# Altium footprint library 野火_H750X_H743X_底板_V1.0_PCB封装库_AD格式.PcbLib: 65 footprints (part 2 of 5)
Each footprint in its own frame and in the unit in brackets; x right, y up, seen from the top. Pads: shape width x height; smd on the part's side, far side on the other; paste and mask are expansions set on the pad; w line width, h text height; cw(c..) or ccw(c..) is an arc to the next point about the centre after c.
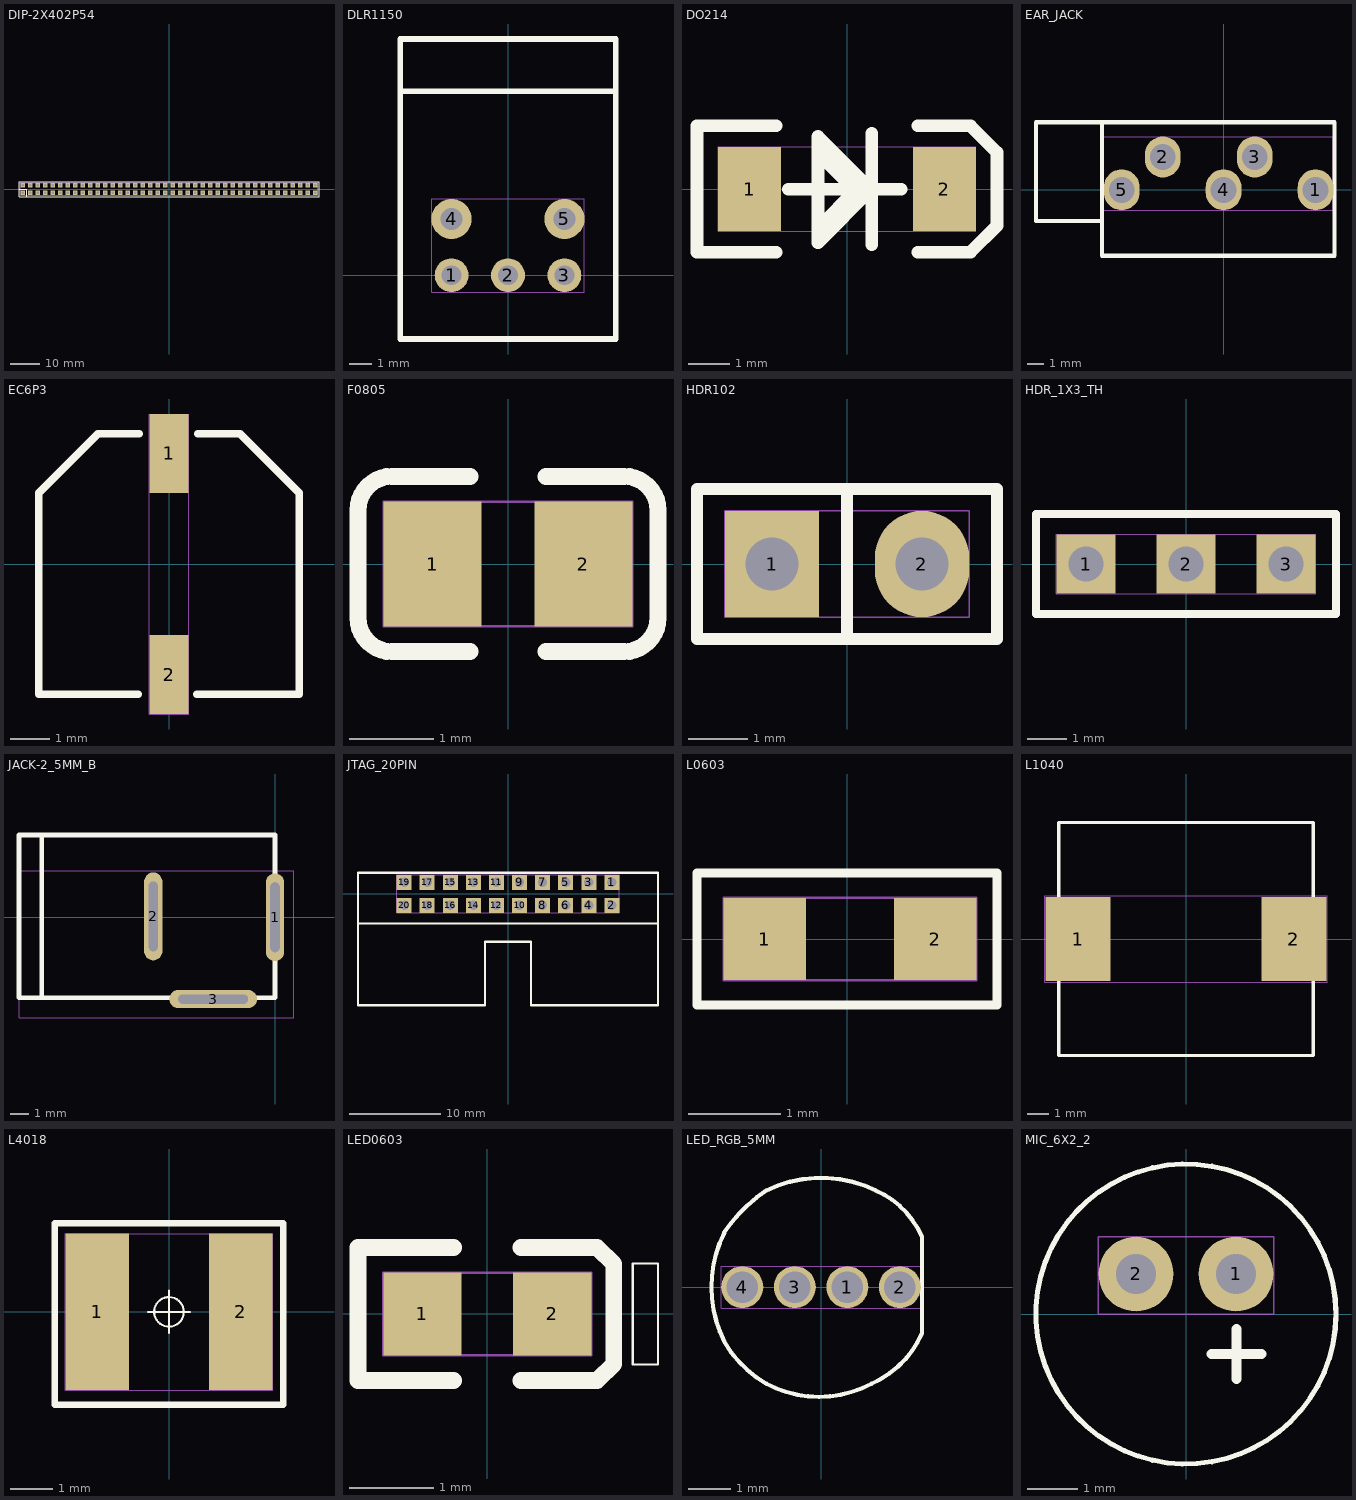
[diagram p1: the footprints below, top view; thin cyan lines are the x and y axes]

## DIP-2X402P54 [mil]
pads (80):
  rect 62.99x62.99 hole 35.43 mask+2: 1(-1950,-50) 2(-1950,50) 3(-1850,-50) 4(-1850,50) 5(-1750,-50) 6(-1750,50) 7(-1650,-50) 8(-1650,50) 9(-1550,-50) 10(-1550,50) 11(-1450,-50) 12(-1450,50) 13(-1350,-50) 14(-1350,50) 15(-1250,-50) 16(-1250,50) 17(-1150,-50) 18(-1150,50) 19(-1050,-50) 20(-1050,50) 21(-950,-50) 22(-950,50) 23(-850,-50) 24(-850,50) 25(-750,-50) 26(-750,50) 27(-650,-50) 28(-650,50) 29(-550,-50) 30(-550,50) 31(-450,-50) 32(-450,50) 33(-350,-50) 34(-350,50) 35(-250,-50) 36(-250,50) 37(-150,-50) 38(-150,50) 39(-50,-50) 40(-50,50) 41(50,-50) 42(50,50) 43(150,-50) 44(150,50) 45(250,-50) 46(250,50) 47(350,-50) 48(350,50) 49(450,-50) 50(450,50) 51(550,-50) 52(550,50) 53(650,-50) 54(650,50) 55(750,-50) 56(750,50) 57(850,-50) 58(850,50) 59(950,-50) 60(950,50) 61(1050,-50) 62(1050,50) 63(1150,-50) 64(1150,50) 65(1250,-50) 66(1250,50) 67(1350,-50) 68(1350,50) 69(1450,-50) 70(1450,50) 71(1550,-50) 72(1550,50) 73(1650,-50) 74(1650,50) 75(1750,-50) 76(1750,50) 77(1850,-50) 78(1850,50) 79(1950,-50) 80(1950,50)
Top Overlay:
  lines w12: -2000,0 -1900,0 -1900,-100 ; -2000,-100 2000,-100 2000,100 -2000,100 -2000,-100
Mechanical 1:
  text "CN5" at -65.11,-25 h50
Mechanical 16:
  lines w1: -1981,-81 1981,-81 1981,81 -1981,81 -1981,-81

## DLR1150 [mil]
pads (5):
  round 60 hole 35 mask+2: 1(-100,0) 2(0,0) 3(100,0)
  round 70.87 hole 39.37 mask+2: 4(-100,99.61) 5(100,99.61)
Top Overlay:
  lines w10: -190.94,325.98 -190.94,418.5 190.94,418.5 190.94,325.98 ; -190.94,325.98 -190.94,-112.99 190.94,-112.99 190.94,325.98 ; -190.94,325.98 190.94,325.98
Mechanical 1:
  text "CN7" at -65.11,-25 h50
Mechanical 16:
  lines w1: -135.43,-30 -135.43,135.04 135.43,135.04 135.43,-30 -135.43,-30

## DO214 [mil]
pads (2):
  rect 60x80 smd mask+2: 1(-92.5,0) 2(92.5,0)
Top Overlay:
  lines w1: -27.58,-25.06 -1.5,-25.06 -1.5,22.87 -27.58,22.87 -27.58,-25.06
  lines w12: -67.5,-60 -142.5,-60 -142.5,60 -67.5,60 ; -55.58,-0.13 51.42,-0.13 ; -27.58,33.87 7.79,-1.51 -25.84,-35.13 ; 23.42,-53.13 23.42,52.87 ; 67.5,-60 117.42,-60 142.5,-34.92 142.5,34.87 117.37,60 67.5,60 ; -27.58,-51.13 -27.58,49.87 23.42,-1.13 23.42,-0.13 -27.58,-51.13
Mechanical 1:
  text "D3" at -38.93,-25 h50
Mechanical 16:
  lines w1: -122.5,-40 -122.5,40 122.5,40 122.5,-40 -122.5,-40

## EAR_JACK [mil]
pads (5):
  oval 86x98 hole 62 mask+2: 1(220.47,0) 2(-145.67,78.74) 3(74.8,78.74) 4(0,0) 5(-244.1,0)
Top Overlay:
  lines w10: -294.49,-75.03 -449.49,-75.03 -449.49,161.97 -294.49,161.97 ; -291.49,-158.03 -291.49,161.97 265.51,161.97 265.51,-158.03 -291.49,-158.03
Mechanical 1:
  text "J20" at -57.25,-25 h50
Mechanical 16:
  lines w1: -287.1,-49 -287.1,127.74 263.47,127.74 263.47,-49 -287.1,-49

## EC6P3 [mm]
pads (2):
  rect 1x2 smd mask+0.051: 1(0,2.8) 2(0,-2.8)
Top Overlay:
  lines w0.2: -0.787,-3.3 -3.3,-3.3 -3.3,1.8 -1.8,3.3 -0.762,3.3 ; 0.711,-3.3 3.3,-3.3 3.3,1.8 1.8,3.3 0.737,3.3
Mechanical 1:
  text "C98" at -1.621,-0.635 h1.27
Mechanical 16:
  lines w0.025: -0.5,-3.8 -0.5,3.8 0.5,3.8 0.5,-3.8 -0.5,-3.8

## F0805 [mm]
pads (2):
  rect 1.16x1.47 smd mask+0.051: 1(-0.89,0) 2(0.89,0)
Top Overlay:
  lines w0.2: -0.45,-1.035 -1.37,-1.035 cw(c-1.37,-0.635) -1.77,-0.635 -1.77,0.635 cw(c-1.37,0.635) -1.37,1.035 -0.45,1.035 ; 0.45,-1.035 1.37,-1.035 ccw(c1.37,-0.635) 1.77,-0.635 1.77,0.635 ccw(c1.37,0.635) 1.37,1.035 0.45,1.035
Mechanical 1:
  text "F1" at -0.617,-0.635 h1.27
Mechanical 16:
  lines w0.025: -1.47,-0.735 1.47,-0.735 1.47,0.735 -1.47,0.735 -1.47,-0.735

## HDR102 [mil]
pads (2):
  rect 62.99x70.87 / inner oval 62.99x70.87 / far side rect 62.99x70.87 hole 35.43 mask+1.97: 1(-50,0)
  oval 62.99x70.87 hole 35.43 mask+1.97: 2(50,0)
Top Overlay:
  lines w8: 0,-50 0,50 ; -100,-50 100,-50 100,50 -100,50 -100,-50
Mechanical 1:
  text "J81" at -46.54,-25 h50
Mechanical 16:
  lines w1: -81.5,-35.43 81.5,-35.43 81.5,35.43 -81.5,35.43 -81.5,-35.43

## HDR_1X3_TH [mil]
height 47
pads (3):
  rect 59.06x59.06 hole 35.43 mask+2: 1(-100,0) 2(0,0) 3(100,0)
Top Overlay:
  lines w7.87: -150,-50 150,-50 150,50 -150,50 -150,-50
Mechanical 1:
  text "J83" at -57.25,-25 h50
Mechanical 16:
  lines w1: -129.53,-29.53 129.53,-29.53 129.53,29.53 -129.53,29.53 -129.53,-29.53

## JACK-2_5MM_B [mm]
pads (3):
  oval 1x4.81 / inner oval 1x4.81 / far side oval 2x4.81 hole 0.5 slot 3.81 at 90 deg mask+0.05: 1(0,0) 2(-6.659,0.046)
  oval 4.81x1 / inner oval 4.81x1 / far side oval 4.81x2 hole 0.5 slot 3.81 at 0 deg mask+0.05: 3(-3.383,-4.475)
Top Overlay:
  lines w0.254: -12.755,-4.348 -12.755,4.501 ; -14,-4.399 -14,4.501 0,4.501 0,-4.399 -14,-4.399
Mechanical 1:
  text "JACK1" at -2.446,-0.635 h1.27
Mechanical 16:
  lines w0.025: -14,-5.491 1.016,-5.491 1.016,2.535 -14,2.535 -14,-5.491

## JTAG_20PIN [mil]
pads (20):
  rect 65x65 hole 40 mask+2: 1(450,50) 2(450,-50) 3(350,50) 4(350,-50) 5(250,50) 6(250,-50) 7(150,50) 8(150,-50) 9(50,50) 10(50,-50) 11(-50,50) 12(-50,-50) 13(-150,50) 14(-150,-50) 15(-250,50) 16(-250,-50) 17(-350,50) 18(-350,-50) 19(-450,50) 20(-450,-50)
Top Overlay:
  lines w10: -650,-128.74 650,-128.74 ; -650,-483.07 -100,-483.07 -100,-207.48 100,-207.48 100,-483.07 650,-483.07 650,91.26 -650,91.26 -650,-483.07
Mechanical 1:
  text "J45" at -57.25,-25 h50
Mechanical 16:
  lines w1: -482.5,-82.5 482.5,-82.5 482.5,82.5 -482.5,82.5 -482.5,-82.5

## L0603 [mil]
pads (2):
  rect 35x35 smd mask+1.97: 1(-35,0) 2(37.49,0)
Top Overlay:
  lines w3.94: -63.74,-28 63.74,-28 63.74,28 -63.74,28 -63.74,-28
Mechanical 1:
  text "L13" at -52.02,-25 h50
Mechanical 16:
  lines w1: -52.5,-17.5 54.99,-17.5 54.99,17.5 -52.5,17.5 -52.5,-17.5

## L1040 [mm]
height 5.283
pads (2):
  rect 3x3.9 smd mask+0.05: 1(-5,0) 2(5,0)
Top Overlay:
  lines w0.152: -5.9,-5.4 5.9,-5.4 5.9,5.4 -5.9,5.4 -5.9,-5.4
Mechanical 1:
  text "L1" at -0.584,-0.635 h1.27
Mechanical 16:
  lines w0.025: -6.55,-2 6.55,-2 6.55,2 -6.55,2 -6.55,-2

## L4018 [mm]
height 5.283
pads (2):
  rect 1.5x3.7 smd mask+0.05: 1(-1.7,0) 2(1.7,0)
Top Overlay:
  circle w0.05: c0,0 r0.35
  lines w0.05: -0.5,0 0.5,0 ; 0,-0.5 0,0.5
  lines w0.152: -2.7,-2.2 2.7,-2.2 2.7,2.1 -2.7,2.1 -2.7,-2.2
Mechanical 1:
  text "L6" at -0.825,-0.635 h1.27
Mechanical 16:
  lines w0.025: -2.45,-1.85 2.45,-1.85 2.45,1.85 -2.45,1.85 -2.45,-1.85

## LED0603 [mil]
pads (2):
  rect 36.61x38.58 smd mask+1.97: 1(-30.31,0) 2(30.32,0)
Top Overlay:
  lines w1: 67.91,-23.62 67.91,23.62 79.73,23.62 79.73,-23.62 67.91,-23.62
  lines w7.87: -15.75,-31.1 -60.43,-31.1 -60.43,31.1 -15.75,31.1 ; 15.75,-31.1 51.18,-31.1 59.06,-23.5 59.06,23.5 51.18,31.1 15.75,31.1
Mechanical 1:
  text "D46" at -59.99,-25 h50
Mechanical 16:
  lines w1: -48.62,-19.29 48.62,-19.29 48.62,19.29 -48.62,19.29 -48.62,-19.29

## LED_RGB_5MM [mm]
pads (4):
  round 1 hole 0.75 mask+0.05: 1(0.625,0) 2(1.875,0) 3(-0.625,0) 4(-1.875,0)
Top Overlay:
  lines w0.1: -2.301,1.297 ccw(c0.3,0) -2.299,-1.302 ; -2.299,-1.301 ccw(c0.05,0.05) -1.301,-2.299 ; -2.299,1.302 cw(c0.65,-0.65) -1.297,2.302 ; -1.3,-2.3 ccw(c-0.05,0.05) 1.2,-2.3 ; -1.299,2.301 cw(c0,-0.35) 1.303,2.298 ; 1.202,-2.299 ccw(c0.25,-0.15) 2.401,-1.098 ; 1.298,2.301 cw(c0.45,0.35) 2.399,1.202 ; 2.4,-1.1 2.4,1.2
Mechanical 1:
  text "D6" at -0.958,-0.635 h1.27
Mechanical 16:
  lines w0.025: -2.375,-0.5 2.375,-0.5 2.375,0.5 -2.375,0.5 -2.375,-0.5

## MIC_6X2_2 [mil]
pads (2):
  round 59.06 hole 31.5 mask+2: 1(39.37,31.5) 2(-39.37,31.5)
Top Overlay:
  circle w4: c0,0 r118.11
  lines w7.87: 19.92,-31.61 59.29,-31.61 ; 39.61,-51.3 39.61,-11.93
Mechanical 1:
  text "P1" at -28.21,-25 h50
Mechanical 16:
  lines w1: -68.9,0 68.9,0 68.9,61.02 -68.9,61.02 -68.9,0